# Altium integrated library Oscillators - Crystals.IntLib: 746 symbols (part 10 of 17)
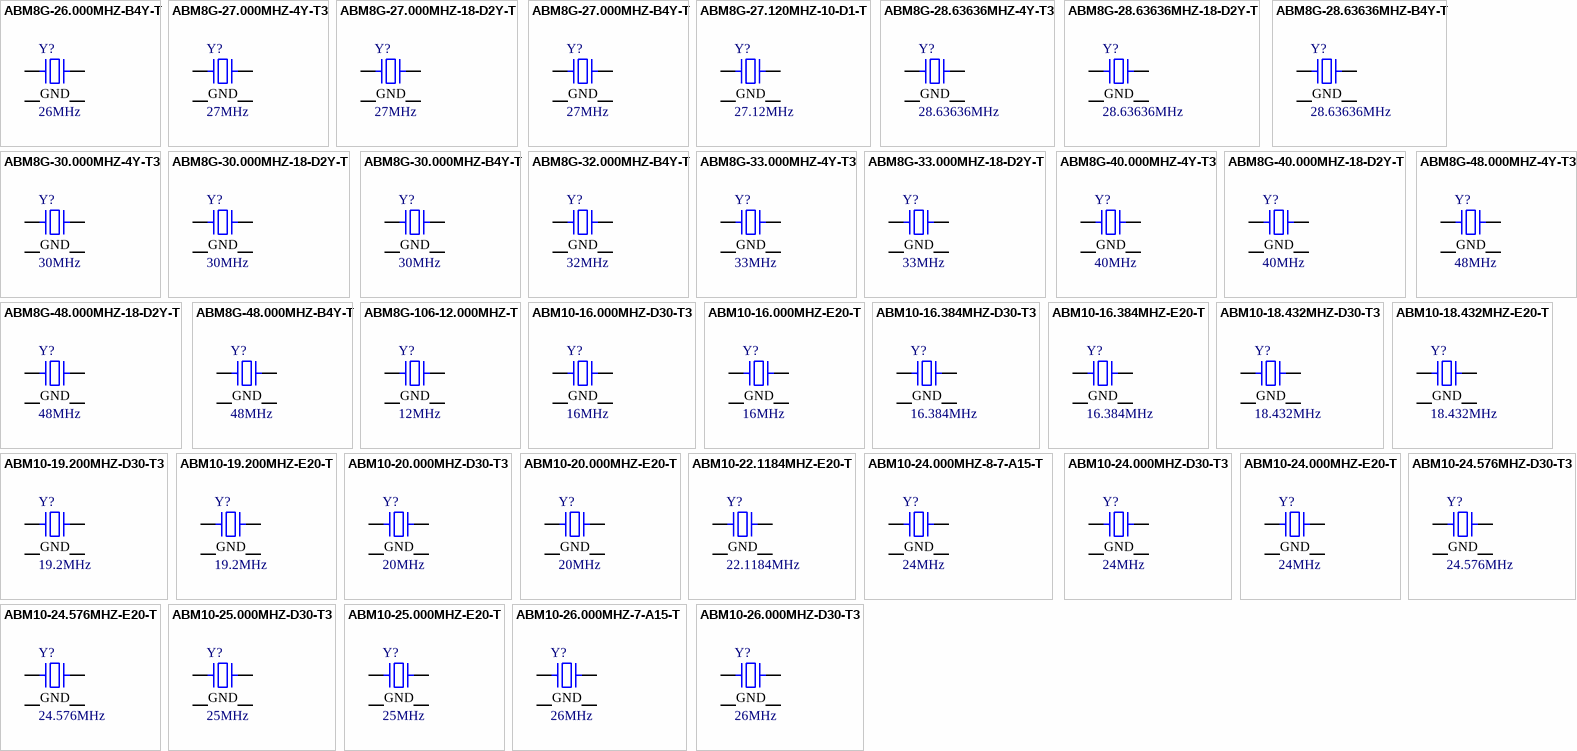
[diagram p27: symbols ABM8G-26.000MHZ-B4Y-T to ABM10-26.000MHZ-D30-T3]

## ABM8G-40.000MHZ-4Y-T3
designator Y?, comment 40MHz
CRYSTAL 40.0000MHZ 10PF SMD; Part Number: ABM8G-40.000MHZ-4Y-T3; Manufacturer: Abracon LLC; ESR (Equivalent Series Resistance): 50 Ohms; Frequency Stability: ±30ppm; Operating Mode: Fundamental; ComponentLink1Description: Datasheet; ComponentLink1URL: https://abracon.com/Resonators/ABM8G.pdf; ComponentLink2Description: DigiKey Link; ComponentLink2URL: http://digikey.com/product-detail/en/abracon-llc/ABM8G-40.000MHZ-4Y-T3/535-10921-1-ND/2624254; Device Package: 4-SMD, No Lead; Frequency: 40MHz; Frequency Tolerance: ±30ppm; Height - Seated (Max): 0.039" (1.00mm); LastUpdated: 3/19/2020 10:36:25 PM; Lifecycle Status: Active; Load Capacitance: 10pF; Minimum Order: 1; Mounting Type: Surface Mount; Operating Temperature: -10°C ~ 60°C; Package / Case: 4-SMD, No Lead; Packaging: TapeAndReel; PartId: 336; Part Status: Active; Price: 0.39; Series: ABM8G; Size / Dimension: 0.126" L x 0.098" W (3.20mm x 2.50mm); Supplier 1: DigiKey; Supplier Part Number 1: 535-10921-1-ND; Type: MHz Crystal; Value: 40MHz
footprint ABRACON ABM8G
pins: 1, 2 GND, 3, 4 GND

## ABM8G-40.000MHZ-18-D2Y-T
designator Y?, comment 40MHz
CRYSTAL 40.0000MHZ 18PF SMD; Part Number: ABM8G-40.000MHZ-18-D2Y-T; Manufacturer: Abracon LLC; ESR (Equivalent Series Resistance): 50 Ohms; Frequency Stability: ±30ppm; Frequency Tolerance: ±20ppm; Operating Mode: Fundamental; ComponentLink1Description: Datasheet; ComponentLink1URL: https://abracon.com/Resonators/ABM8G.pdf; ComponentLink2Description: DigiKey Link; ComponentLink2URL: http://digikey.com/product-detail/en/abracon-llc/ABM8G-40.000MHZ-18-D2Y-T/535-10281-1-ND/2218094; Device Package: 4-SMD, No Lead; Frequency: 40MHz; Height - Seated (Max): 0.039" (1.00mm); LastUpdated: 3/19/2020 10:36:25 PM; Lifecycle Status: Active; Load Capacitance: 18pF; Minimum Order: 1; Mounting Type: Surface Mount; Operating Temperature: -40°C ~ 85°C; Package / Case: 4-SMD, No Lead; Packaging: TapeAndReel; PartId: 323; Part Status: Active; Price: 0.59; Series: ABM8G; Size / Dimension: 0.126" L x 0.098" W (3.20mm x 2.50mm); Supplier 1: DigiKey; Supplier Part Number 1: 535-10281-1-ND; Type: MHz Crystal; Value: 40MHz
footprint ABRACON ABM8G
pins: 1, 2 GND, 3, 4 GND

## ABM8G-48.000MHZ-4Y-T3
designator Y?, comment 48MHz
CRYSTAL 48.0000MHZ 10PF SMD; Part Number: ABM8G-48.000MHZ-4Y-T3; Manufacturer: Abracon LLC; ESR (Equivalent Series Resistance): 50 Ohms; Frequency Stability: ±30ppm; Operating Mode: Fundamental; ComponentLink1Description: Datasheet; ComponentLink1URL: https://abracon.com/Resonators/ABM8G.pdf; ComponentLink2Description: DigiKey Link; ComponentLink2URL: http://digikey.com/product-detail/en/abracon-llc/ABM8G-48.000MHZ-4Y-T3/535-10922-1-ND/2624255; Device Package: 4-SMD, No Lead; Frequency: 48MHz; Frequency Tolerance: ±30ppm; Height - Seated (Max): 0.039" (1.00mm); LastUpdated: 3/19/2020 10:36:25 PM; Lifecycle Status: Active; Load Capacitance: 10pF; Minimum Order: 1; Mounting Type: Surface Mount; Operating Temperature: -10°C ~ 60°C; Package / Case: 4-SMD, No Lead; Packaging: TapeAndReel; PartId: 329; Part Status: Active; Price: 0.39; Series: ABM8G; Size / Dimension: 0.126" L x 0.098" W (3.20mm x 2.50mm); Supplier 1: DigiKey; Supplier Part Number 1: 535-10922-1-ND; Type: MHz Crystal; Value: 48MHz
footprint ABRACON ABM8G
pins: 1, 2 GND, 3, 4 GND

## ABM8G-48.000MHZ-18-D2Y-T
designator Y?, comment 48MHz
CRYSTAL 48.0000MHZ 18PF SMD; Part Number: ABM8G-48.000MHZ-18-D2Y-T; Manufacturer: Abracon LLC; ESR (Equivalent Series Resistance): 50 Ohms; Frequency Stability: ±30ppm; Frequency Tolerance: ±20ppm; Operating Mode: Fundamental; ComponentLink1Description: Datasheet; ComponentLink1URL: https://abracon.com/Resonators/ABM8G.pdf; ComponentLink2Description: DigiKey Link; ComponentLink2URL: http://digikey.com/product-detail/en/abracon-llc/ABM8G-48.000MHZ-18-D2Y-T/535-10282-1-ND/2218095; Device Package: 4-SMD, No Lead; Frequency: 48MHz; Height - Seated (Max): 0.039" (1.00mm); LastUpdated: 3/19/2020 10:36:25 PM; Lifecycle Status: Active; Load Capacitance: 18pF; Minimum Order: 1; Mounting Type: Surface Mount; Operating Temperature: -40°C ~ 85°C; Package / Case: 4-SMD, No Lead; Packaging: TapeAndReel; PartId: 318; Part Status: Active; Price: 0.59; Series: ABM8G; Size / Dimension: 0.126" L x 0.098" W (3.20mm x 2.50mm); Supplier 1: DigiKey; Supplier Part Number 1: 535-10282-1-ND; Type: MHz Crystal; Value: 48MHz
footprint ABRACON ABM8G
pins: 1, 2 GND, 3, 4 GND

## ABM8G-48.000MHZ-B4Y-T
designator Y?, comment 48MHz
CRYSTAL 48.0000MHZ 10PF SMD; Part Number: ABM8G-48.000MHZ-B4Y-T; Manufacturer: Abracon LLC; ESR (Equivalent Series Resistance): 50 Ohms; Frequency Stability: ±30ppm; Operating Mode: Fundamental; ComponentLink1Description: Datasheet; ComponentLink1URL: https://abracon.com/Resonators/ABM8G.pdf; ComponentLink2Description: DigiKey Link; ComponentLink2URL: http://digikey.com/product-detail/en/abracon-llc/ABM8G-48.000MHZ-B4Y-T/535-10305-1-ND/2218118; Device Package: 4-SMD, No Lead; Frequency: 48MHz; Frequency Tolerance: ±30ppm; Height - Seated (Max): 0.039" (1.00mm); LastUpdated: 3/19/2020 10:36:25 PM; Lifecycle Status: Active; Load Capacitance: 10pF; Minimum Order: 1; Mounting Type: Surface Mount; Operating Temperature: -20°C ~ 70°C; Package / Case: 4-SMD, No Lead; Packaging: TapeAndReel; PartId: 305; Part Status: Active; Price: 0.50; Series: ABM8G; Size / Dimension: 0.126" L x 0.098" W (3.20mm x 2.50mm); Supplier 1: DigiKey; Supplier Part Number 1: 535-10305-1-ND; Type: MHz Crystal; Value: 48MHz
footprint ABRACON ABM8G
pins: 1, 2 GND, 3, 4 GND

## ABM8G-106-12.000MHZ-T
designator Y?, comment 12MHz
IOT 12MHZ 10PF XTAL; Part Number: ABM8G-106-12.000MHZ-T; Manufacturer: Abracon LLC; ESR (Equivalent Series Resistance): 120 Ohms; Frequency Stability: ±30ppm; Frequency Tolerance: ±20ppm; Operating Mode: Fundamental; ComponentLink1Description: Datasheet; ComponentLink1URL: https://abracon.com/datasheets/ABM8G-106-12.000MHz-T.pdf; ComponentLink2Description: DigiKey Link; ComponentLink2URL: http://digikey.com/product-detail/en/abracon-llc/ABM8G-106-12.000MHZ-T/535-14512-1-ND/8827203; Device Package: 4-SMD, No Lead; Frequency: 12MHz; Height - Seated (Max): 0.039" (1.00mm); LastUpdated: 3/19/2020 10:36:25 PM; Lifecycle Status: Active; Load Capacitance: 10pF; Minimum Order: 1; Mounting Type: Surface Mount; Operating Temperature: -40°C ~ 85°C; Package / Case: 4-SMD, No Lead; Packaging: TapeAndReel; PartId: 308; Part Status: Active; Price: 0.26; Series: ABM8G; Size / Dimension: 0.126" L x 0.098" W (3.20mm x 2.50mm); Supplier 1: DigiKey; Supplier Part Number 1: 535-14512-1-ND; Type: MHz Crystal; Value: 12MHz
footprint ABRACON ABM8G
pins: 1, 2 GND, 3, 4 GND

## ABM10-16.000MHZ-D30-T3
designator Y?, comment 16MHz
CRYSTAL 16.0000MHZ 10PF SMD; Part Number: ABM10-16.000MHZ-D30-T3; Manufacturer: Abracon LLC; ESR (Equivalent Series Resistance): 150 Ohms; Frequency Stability: ±30ppm; Frequency Tolerance: ±20ppm; Operating Mode: Fundamental; ComponentLink1Description: Datasheet; ComponentLink1URL: https://abracon.com/Resonators/ABM10.pdf; ComponentLink2Description: DigiKey Link; ComponentLink2URL: http://digikey.com/product-detail/en/abracon-llc/ABM10-16.000MHZ-D30-T3/535-10923-1-ND/2624174; Device Package: 4-SMD, No Lead; Frequency: 16MHz; Height - Seated (Max): 0.028" (0.70mm); LastUpdated: 3/19/2020 10:27:46 PM; Lifecycle Status: Active; Load Capacitance: 10pF; Minimum Order: 1; Mounting Type: Surface Mount; Operating Temperature: -40°C ~ 85°C; Package / Case: 4-SMD, No Lead; Packaging: TapeAndReel; PartId: 291; Part Status: Active; Price: 0.67; Series: ABM10; Size / Dimension: 0.098" L x 0.079" W (2.50mm x 2.00mm); Supplier 1: DigiKey; Supplier Part Number 1: 535-10923-1-ND; Type: MHz Crystal; Value: 16MHz
footprint ABRACON ABM10
pins: 1, 2 GND, 3, 4 GND

## ABM10-16.000MHZ-E20-T
designator Y?, comment 16MHz
CRYSTAL 16.0000MHZ 10PF SMD; Part Number: ABM10-16.000MHZ-E20-T; Manufacturer: Abracon LLC; ESR (Equivalent Series Resistance): 150 Ohms; Frequency Stability: ±20ppm; Operating Mode: Fundamental; ComponentLink1Description: Datasheet; ComponentLink1URL: https://abracon.com/Resonators/ABM10.pdf; ComponentLink2Description: DigiKey Link; ComponentLink2URL: http://digikey.com/product-detail/en/abracon-llc/ABM10-16.000MHZ-E20-T/535-9810-1-ND/2001433; Device Package: 4-SMD, No Lead; Frequency: 16MHz; Frequency Tolerance: ±20ppm; Height - Seated (Max): 0.028" (0.70mm); LastUpdated: 3/19/2020 10:27:46 PM; Lifecycle Status: Active; Load Capacitance: 10pF; Minimum Order: 1; Mounting Type: Surface Mount; Operating Temperature: -20°C ~ 70°C; Package / Case: 4-SMD, No Lead; Packaging: TapeAndReel; PartId: 278; Part Status: Active; Price: 0.96; Series: ABM10; Size / Dimension: 0.098" L x 0.079" W (2.50mm x 2.00mm); Supplier 1: DigiKey; Supplier Part Number 1: 535-9810-1-ND; Type: MHz Crystal; Value: 16MHz
footprint ABRACON ABM10
pins: 1, 2 GND, 3, 4 GND

## ABM10-16.384MHZ-D30-T3
designator Y?, comment 16.384MHz
CRYSTAL 16.3840MHZ 10PF SMD; Part Number: ABM10-16.384MHZ-D30-T3; Manufacturer: Abracon LLC; ESR (Equivalent Series Resistance): 150 Ohms; Frequency Stability: ±30ppm; Frequency Tolerance: ±20ppm; Operating Mode: Fundamental; ComponentLink1Description: Datasheet; ComponentLink1URL: https://abracon.com/Resonators/ABM10.pdf; ComponentLink2Description: DigiKey Link; ComponentLink2URL: http://digikey.com/product-detail/en/abracon-llc/ABM10-16.384MHZ-D30-T3/535-10925-1-ND/2624176; Device Package: 4-SMD, No Lead; Frequency: 16.384MHz; Height - Seated (Max): 0.028" (0.70mm); LastUpdated: 3/19/2020 10:27:46 PM; Lifecycle Status: Active; Load Capacitance: 10pF; Minimum Order: 1; Mounting Type: Surface Mount; Operating Temperature: -40°C ~ 85°C; Package / Case: 4-SMD, No Lead; Packaging: TapeAndReel; PartId: 271; Part Status: Active; Price: 0.67; Series: ABM10; Size / Dimension: 0.098" L x 0.079" W (2.50mm x 2.00mm); Supplier 1: DigiKey; Supplier Part Number 1: 535-10925-1-ND; Type: MHz Crystal; Value: 16.384MHz
footprint ABRACON ABM10
pins: 1, 2 GND, 3, 4 GND

## ABM10-16.384MHZ-E20-T
designator Y?, comment 16.384MHz
CRYSTAL 16.3840MHZ 10PF SMD; Part Number: ABM10-16.384MHZ-E20-T; Manufacturer: Abracon LLC; ESR (Equivalent Series Resistance): 150 Ohms; Frequency Stability: ±20ppm; Operating Mode: Fundamental; ComponentLink1Description: Datasheet; ComponentLink1URL: https://abracon.com/Resonators/ABM10.pdf; ComponentLink2Description: DigiKey Link; ComponentLink2URL: http://digikey.com/product-detail/en/abracon-llc/ABM10-16.384MHZ-E20-T/535-9812-1-ND/2001435; Device Package: 4-SMD, No Lead; Frequency: 16.384MHz; Frequency Tolerance: ±20ppm; Height - Seated (Max): 0.028" (0.70mm); LastUpdated: 3/19/2020 10:27:46 PM; Lifecycle Status: Active; Load Capacitance: 10pF; Minimum Order: 1; Mounting Type: Surface Mount; Operating Temperature: -20°C ~ 70°C; Package / Case: 4-SMD, No Lead; Packaging: TapeAndReel; PartId: 276; Part Status: Active; Price: 0.96; Series: ABM10; Size / Dimension: 0.098" L x 0.079" W (2.50mm x 2.00mm); Supplier 1: DigiKey; Supplier Part Number 1: 535-9812-1-ND; Type: MHz Crystal; Value: 16.384MHz
footprint ABRACON ABM10
pins: 1, 2 GND, 3, 4 GND

## ABM10-18.432MHZ-D30-T3
designator Y?, comment 18.432MHz
CRYSTAL 18.4320MHZ 10PF SMD; Part Number: ABM10-18.432MHZ-D30-T3; Manufacturer: Abracon LLC; ESR (Equivalent Series Resistance): 150 Ohms; Frequency Stability: ±30ppm; Frequency Tolerance: ±20ppm; Operating Mode: Fundamental; ComponentLink1Description: Datasheet; ComponentLink1URL: https://abracon.com/Resonators/ABM10.pdf; ComponentLink2Description: DigiKey Link; ComponentLink2URL: http://digikey.com/product-detail/en/abracon-llc/ABM10-18.432MHZ-D30-T3/535-10926-1-ND/2624177; Device Package: 4-SMD, No Lead; Frequency: 18.432MHz; Height - Seated (Max): 0.028" (0.70mm); LastUpdated: 3/19/2020 10:27:46 PM; Lifecycle Status: Active; Load Capacitance: 10pF; Minimum Order: 1; Mounting Type: Surface Mount; Operating Temperature: -40°C ~ 85°C; Package / Case: 4-SMD, No Lead; Packaging: TapeAndReel; PartId: 270; Part Status: Active; Price: 0.67; Series: ABM10; Size / Dimension: 0.098" L x 0.079" W (2.50mm x 2.00mm); Supplier 1: DigiKey; Supplier Part Number 1: 535-10926-1-ND; Type: MHz Crystal; Value: 18.432MHz
footprint ABRACON ABM10
pins: 1, 2 GND, 3, 4 GND

## ABM10-18.432MHZ-E20-T
designator Y?, comment 18.432MHz
CRYSTAL 18.4320MHZ 10PF SMD; Part Number: ABM10-18.432MHZ-E20-T; Manufacturer: Abracon LLC; ESR (Equivalent Series Resistance): 150 Ohms; Frequency Stability: ±20ppm; Operating Mode: Fundamental; ComponentLink1Description: Datasheet; ComponentLink1URL: https://abracon.com/Resonators/ABM10.pdf; ComponentLink2Description: DigiKey Link; ComponentLink2URL: http://digikey.com/product-detail/en/abracon-llc/ABM10-18.432MHZ-E20-T/535-9813-1-ND/2001436; Device Package: 4-SMD, No Lead; Frequency: 18.432MHz; Frequency Tolerance: ±20ppm; Height - Seated (Max): 0.028" (0.70mm); LastUpdated: 3/19/2020 10:27:46 PM; Lifecycle Status: Active; Load Capacitance: 10pF; Minimum Order: 1; Mounting Type: Surface Mount; Operating Temperature: -20°C ~ 70°C; Package / Case: 4-SMD, No Lead; Packaging: TapeAndReel; PartId: 288; Part Status: Active; Price: 0.96; Series: ABM10; Size / Dimension: 0.098" L x 0.079" W (2.50mm x 2.00mm); Supplier 1: DigiKey; Supplier Part Number 1: 535-9813-1-ND; Type: MHz Crystal; Value: 18.432MHz
footprint ABRACON ABM10
pins: 1, 2 GND, 3, 4 GND

## ABM10-19.200MHZ-D30-T3
designator Y?, comment 19.2MHz
CRYSTAL 19.2000MHZ 10PF SMD; Part Number: ABM10-19.200MHZ-D30-T3; Manufacturer: Abracon LLC; ESR (Equivalent Series Resistance): 150 Ohms; Frequency Stability: ±30ppm; Frequency Tolerance: ±20ppm; Operating Mode: Fundamental; ComponentLink1Description: Datasheet; ComponentLink1URL: https://abracon.com/Resonators/ABM10.pdf; ComponentLink2Description: DigiKey Link; ComponentLink2URL: http://digikey.com/product-detail/en/abracon-llc/ABM10-19.200MHZ-D30-T3/535-10927-1-ND/2624178; Device Package: 4-SMD, No Lead; Frequency: 19.2MHz; Height - Seated (Max): 0.028" (0.70mm); LastUpdated: 3/19/2020 10:27:46 PM; Lifecycle Status: Active; Load Capacitance: 10pF; Minimum Order: 1; Mounting Type: Surface Mount; Operating Temperature: -40°C ~ 85°C; Package / Case: 4-SMD, No Lead; Packaging: TapeAndReel; PartId: 293; Part Status: Active; Price: 0.67; Series: ABM10; Size / Dimension: 0.098" L x 0.079" W (2.50mm x 2.00mm); Supplier 1: DigiKey; Supplier Part Number 1: 535-10927-1-ND; Type: MHz Crystal; Value: 19.2MHz
footprint ABRACON ABM10
pins: 1, 2 GND, 3, 4 GND

## ABM10-19.200MHZ-E20-T
designator Y?, comment 19.2MHz
CRYSTAL 19.2000MHZ 10PF SMD; Part Number: ABM10-19.200MHZ-E20-T; Manufacturer: Abracon LLC; ESR (Equivalent Series Resistance): 150 Ohms; Frequency Stability: ±20ppm; Operating Mode: Fundamental; ComponentLink1Description: Datasheet; ComponentLink1URL: https://abracon.com/Resonators/ABM10.pdf; ComponentLink2Description: DigiKey Link; ComponentLink2URL: http://digikey.com/product-detail/en/abracon-llc/ABM10-19.200MHZ-E20-T/535-9814-1-ND/2001437; Device Package: 4-SMD, No Lead; Frequency: 19.2MHz; Frequency Tolerance: ±20ppm; Height - Seated (Max): 0.028" (0.70mm); LastUpdated: 3/19/2020 10:27:46 PM; Lifecycle Status: Active; Load Capacitance: 10pF; Minimum Order: 1; Mounting Type: Surface Mount; Operating Temperature: -20°C ~ 70°C; Package / Case: 4-SMD, No Lead; Packaging: TapeAndReel; PartId: 283; Part Status: Active; Price: 0.96; Series: ABM10; Size / Dimension: 0.098" L x 0.079" W (2.50mm x 2.00mm); Supplier 1: DigiKey; Supplier Part Number 1: 535-9814-1-ND; Type: MHz Crystal; Value: 19.2MHz
footprint ABRACON ABM10
pins: 1, 2 GND, 3, 4 GND

## ABM10-20.000MHZ-D30-T3
designator Y?, comment 20MHz
CRYSTAL 20.0000MHZ 10PF SMD; Part Number: ABM10-20.000MHZ-D30-T3; Manufacturer: Abracon LLC; ESR (Equivalent Series Resistance): 100 Ohms; Frequency Stability: ±30ppm; Frequency Tolerance: ±20ppm; Operating Mode: Fundamental; ComponentLink1Description: Datasheet; ComponentLink1URL: https://abracon.com/Resonators/ABM10.pdf; ComponentLink2Description: DigiKey Link; ComponentLink2URL: http://digikey.com/product-detail/en/abracon-llc/ABM10-20.000MHZ-D30-T3/535-10928-1-ND/2624179; Device Package: 4-SMD, No Lead; Frequency: 20MHz; Height - Seated (Max): 0.028" (0.70mm); LastUpdated: 3/19/2020 10:27:46 PM; Lifecycle Status: Active; Load Capacitance: 10pF; Minimum Order: 1; Mounting Type: Surface Mount; Operating Temperature: -40°C ~ 85°C; Package / Case: 4-SMD, No Lead; Packaging: TapeAndReel; PartId: 294; Part Status: Active; Price: 0.67; Series: ABM10; Size / Dimension: 0.098" L x 0.079" W (2.50mm x 2.00mm); Supplier 1: DigiKey; Supplier Part Number 1: 535-10928-1-ND; Type: MHz Crystal; Value: 20MHz
footprint ABRACON ABM10
pins: 1, 2 GND, 3, 4 GND

## ABM10-20.000MHZ-E20-T
designator Y?, comment 20MHz
CRYSTAL 20.0000MHZ 10PF SMD; Part Number: ABM10-20.000MHZ-E20-T; Manufacturer: Abracon LLC; ESR (Equivalent Series Resistance): 100 Ohms; Frequency Stability: ±20ppm; Operating Mode: Fundamental; ComponentLink1Description: Datasheet; ComponentLink1URL: https://abracon.com/Resonators/ABM10.pdf; ComponentLink2Description: DigiKey Link; ComponentLink2URL: http://digikey.com/product-detail/en/abracon-llc/ABM10-20.000MHZ-E20-T/535-9091-1-ND/675608; Device Package: 4-SMD, No Lead; Frequency: 20MHz; Frequency Tolerance: ±20ppm; Height - Seated (Max): 0.028" (0.70mm); LastUpdated: 3/19/2020 10:27:46 PM; Lifecycle Status: Active; Load Capacitance: 10pF; Minimum Order: 1; Mounting Type: Surface Mount; Operating Temperature: -20°C ~ 70°C; Package / Case: 4-SMD, No Lead; Packaging: TapeAndReel; PartId: 282; Part Status: Active; Price: 0.96; Series: ABM10; Size / Dimension: 0.098" L x 0.079" W (2.50mm x 2.00mm); Supplier 1: DigiKey; Supplier Part Number 1: 535-9091-1-ND; Type: MHz Crystal; Value: 20MHz
footprint ABRACON ABM10
pins: 1, 2 GND, 3, 4 GND

## ABM10-22.1184MHZ-E20-T
designator Y?, comment 22.1184MHz
CRYSTAL 22.1184MHZ 10PF SMD; Part Number: ABM10-22.1184MHZ-E20-T; Manufacturer: Abracon LLC; ESR (Equivalent Series Resistance): 100 Ohms; Frequency Stability: ±20ppm; Operating Mode: Fundamental; ComponentLink1Description: Datasheet; ComponentLink1URL: https://abracon.com/Resonators/ABM10.pdf; ComponentLink2Description: DigiKey Link; ComponentLink2URL: http://digikey.com/product-detail/en/abracon-llc/ABM10-22.1184MHZ-E20-T/535-9092-1-ND/675609; Device Package: 4-SMD, No Lead; Frequency: 22.1184MHz; Frequency Tolerance: ±20ppm; Height - Seated (Max): 0.028" (0.70mm); LastUpdated: 3/19/2020 10:27:46 PM; Lifecycle Status: Active; Load Capacitance: 10pF; Minimum Order: 1; Mounting Type: Surface Mount; Operating Temperature: -20°C ~ 70°C; Package / Case: 4-SMD, No Lead; Packaging: TapeAndReel; PartId: 277; Part Status: Active; Price: 0.96; Series: ABM10; Size / Dimension: 0.098" L x 0.079" W (2.50mm x 2.00mm); Supplier 1: DigiKey; Supplier Part Number 1: 535-9092-1-ND; Type: MHz Crystal; Value: 22.1184MHz
footprint ABRACON ABM10
pins: 1, 2 GND, 3, 4 GND

## ABM10-24.000MHZ-8-7-A15-T
designator Y?, comment 24MHz
CRYSTAL 24.0000MHZ 8PF SMD; Part Number: ABM10-24.000MHZ-8-7-A15-T; Manufacturer: Abracon LLC; ESR (Equivalent Series Resistance): 100 Ohms; Frequency Stability: ±15ppm; Operating Mode: Fundamental; ComponentLink1Description: Datasheet; ComponentLink1URL: https://abracon.com/Resonators/ABM10.pdf; ComponentLink2Description: DigiKey Link; ComponentLink2URL: http://digikey.com/product-detail/en/abracon-llc/ABM10-24.000MHZ-8-7-A15-T/535-9622-1-ND/1237089; Device Package: 4-SMD, No Lead; Frequency: 24MHz; Frequency Tolerance: ±15ppm; Height - Seated (Max): 0.028" (0.70mm); LastUpdated: 3/19/2020 10:27:46 PM; Lifecycle Status: Active; Load Capacitance: 8pF; Minimum Order: 1; Mounting Type: Surface Mount; Operating Temperature: -10°C ~ 60°C; Package / Case: 4-SMD, No Lead; Packaging: TapeAndReel; PartId: 265; Part Status: Active; Price: 0.60; Series: ABM10; Size / Dimension: 0.098" L x 0.079" W (2.50mm x 2.00mm); Supplier 1: DigiKey; Supplier Part Number 1: 535-9622-1-ND; Type: MHz Crystal; Value: 24MHz
footprint ABRACON ABM10
pins: 1, 2 GND, 3, 4 GND

## ABM10-24.000MHZ-D30-T3
designator Y?, comment 24MHz
CRYSTAL 24.0000MHZ 10PF SMD; Part Number: ABM10-24.000MHZ-D30-T3; Manufacturer: Abracon LLC; ESR (Equivalent Series Resistance): 100 Ohms; Frequency Stability: ±30ppm; Frequency Tolerance: ±20ppm; Operating Mode: Fundamental; ComponentLink1Description: Datasheet; ComponentLink1URL: https://abracon.com/Resonators/ABM10.pdf; ComponentLink2Description: DigiKey Link; ComponentLink2URL: http://digikey.com/product-detail/en/abracon-llc/ABM10-24.000MHZ-D30-T3/535-10930-1-ND/2624181; Device Package: 4-SMD, No Lead; Frequency: 24MHz; Height - Seated (Max): 0.028" (0.70mm); LastUpdated: 3/19/2020 10:27:46 PM; Lifecycle Status: Active; Load Capacitance: 10pF; Minimum Order: 1; Mounting Type: Surface Mount; Operating Temperature: -40°C ~ 85°C; Package / Case: 4-SMD, No Lead; Packaging: TapeAndReel; PartId: 292; Part Status: Active; Price: 0.67; Series: ABM10; Size / Dimension: 0.098" L x 0.079" W (2.50mm x 2.00mm); Supplier 1: DigiKey; Supplier Part Number 1: 535-10930-1-ND; Type: MHz Crystal; Value: 24MHz
footprint ABRACON ABM10
pins: 1, 2 GND, 3, 4 GND

## ABM10-24.000MHZ-E20-T
designator Y?, comment 24MHz
CRYSTAL 24.0000MHZ 10PF SMD; Part Number: ABM10-24.000MHZ-E20-T; Manufacturer: Abracon LLC; ESR (Equivalent Series Resistance): 100 Ohms; Frequency Stability: ±20ppm; Operating Mode: Fundamental; ComponentLink1Description: Datasheet; ComponentLink1URL: https://abracon.com/Resonators/ABM10.pdf; ComponentLink2Description: DigiKey Link; ComponentLink2URL: http://digikey.com/product-detail/en/abracon-llc/ABM10-24.000MHZ-E20-T/535-9093-1-ND/675610; Device Package: 4-SMD, No Lead; Frequency: 24MHz; Frequency Tolerance: ±20ppm; Height - Seated (Max): 0.028" (0.70mm); LastUpdated: 3/19/2020 10:27:46 PM; Lifecycle Status: Active; Load Capacitance: 10pF; Minimum Order: 1; Mounting Type: Surface Mount; Operating Temperature: -20°C ~ 70°C; Package / Case: 4-SMD, No Lead; Packaging: TapeAndReel; PartId: 280; Part Status: Active; Price: 0.96; Series: ABM10; Size / Dimension: 0.098" L x 0.079" W (2.50mm x 2.00mm); Supplier 1: DigiKey; Supplier Part Number 1: 535-9093-1-ND; Type: MHz Crystal; Value: 24MHz
footprint ABRACON ABM10
pins: 1, 2 GND, 3, 4 GND

## ABM10-24.576MHZ-D30-T3
designator Y?, comment 24.576MHz
CRYSTAL 24.5760MHZ 10PF SMD; Part Number: ABM10-24.576MHZ-D30-T3; Manufacturer: Abracon LLC; ESR (Equivalent Series Resistance): 100 Ohms; Frequency Stability: ±30ppm; Frequency Tolerance: ±20ppm; Operating Mode: Fundamental; ComponentLink1Description: Datasheet; ComponentLink1URL: https://abracon.com/Resonators/ABM10.pdf; ComponentLink2Description: DigiKey Link; ComponentLink2URL: http://digikey.com/product-detail/en/abracon-llc/ABM10-24.576MHZ-D30-T3/535-10931-1-ND/2624182; Device Package: 4-SMD, No Lead; Frequency: 24.576MHz; Height - Seated (Max): 0.028" (0.70mm); LastUpdated: 3/19/2020 10:27:46 PM; Lifecycle Status: Active; Load Capacitance: 10pF; Minimum Order: 1; Mounting Type: Surface Mount; Operating Temperature: -40°C ~ 85°C; Package / Case: 4-SMD, No Lead; Packaging: TapeAndReel; PartId: 267; Part Status: Active; Price: 0.67; Series: ABM10; Size / Dimension: 0.098" L x 0.079" W (2.50mm x 2.00mm); Supplier 1: DigiKey; Supplier Part Number 1: 535-10931-1-ND; Type: MHz Crystal; Value: 24.576MHz
footprint ABRACON ABM10
pins: 1, 2 GND, 3, 4 GND

## ABM10-24.576MHZ-E20-T
designator Y?, comment 24.576MHz
CRYSTAL 24.5760MHZ 10PF SMD; Part Number: ABM10-24.576MHZ-E20-T; Manufacturer: Abracon LLC; ESR (Equivalent Series Resistance): 100 Ohms; Frequency Stability: ±20ppm; Operating Mode: Fundamental; ComponentLink1Description: Datasheet; ComponentLink1URL: https://abracon.com/Resonators/ABM10.pdf; ComponentLink2Description: DigiKey Link; ComponentLink2URL: http://digikey.com/product-detail/en/abracon-llc/ABM10-24.576MHZ-E20-T/535-9094-1-ND/675611; Device Package: 4-SMD, No Lead; Frequency: 24.576MHz; Frequency Tolerance: ±20ppm; Height - Seated (Max): 0.028" (0.70mm); LastUpdated: 3/19/2020 10:27:46 PM; Lifecycle Status: Active; Load Capacitance: 10pF; Minimum Order: 1; Mounting Type: Surface Mount; Operating Temperature: -20°C ~ 70°C; Package / Case: 4-SMD, No Lead; Packaging: TapeAndReel; PartId: 287; Part Status: Active; Price: 0.96; Series: ABM10; Size / Dimension: 0.098" L x 0.079" W (2.50mm x 2.00mm); Supplier 1: DigiKey; Supplier Part Number 1: 535-9094-1-ND; Type: MHz Crystal; Value: 24.576MHz
footprint ABRACON ABM10
pins: 1, 2 GND, 3, 4 GND

## ABM10-25.000MHZ-D30-T3
designator Y?, comment 25MHz
CRYSTAL 25.0000MHZ 10PF SMD; Part Number: ABM10-25.000MHZ-D30-T3; Manufacturer: Abracon LLC; ESR (Equivalent Series Resistance): 100 Ohms; Frequency Stability: ±30ppm; Frequency Tolerance: ±20ppm; Operating Mode: Fundamental; ComponentLink1Description: Datasheet; ComponentLink1URL: https://abracon.com/Resonators/ABM10.pdf; ComponentLink2Description: DigiKey Link; ComponentLink2URL: http://digikey.com/product-detail/en/abracon-llc/ABM10-25.000MHZ-D30-T3/535-10932-1-ND/2624183; Device Package: 4-SMD, No Lead; Frequency: 25MHz; Height - Seated (Max): 0.028" (0.70mm); LastUpdated: 3/19/2020 10:27:46 PM; Lifecycle Status: Active; Load Capacitance: 10pF; Minimum Order: 1; Mounting Type: Surface Mount; Operating Temperature: -40°C ~ 85°C; Package / Case: 4-SMD, No Lead; Packaging: TapeAndReel; PartId: 264; Part Status: Active; Price: 0.67; Series: ABM10; Size / Dimension: 0.098" L x 0.079" W (2.50mm x 2.00mm); Supplier 1: DigiKey; Supplier Part Number 1: 535-10932-1-ND; Type: MHz Crystal; Value: 25MHz
footprint ABRACON ABM10
pins: 1, 2 GND, 3, 4 GND

## ABM10-25.000MHZ-E20-T
designator Y?, comment 25MHz
CRYSTAL 25.0000MHZ 10PF SMD; Part Number: ABM10-25.000MHZ-E20-T; Manufacturer: Abracon LLC; ESR (Equivalent Series Resistance): 100 Ohms; Frequency Stability: ±20ppm; Operating Mode: Fundamental; ComponentLink1Description: Datasheet; ComponentLink1URL: https://abracon.com/Resonators/ABM10.pdf; ComponentLink2Description: DigiKey Link; ComponentLink2URL: http://digikey.com/product-detail/en/abracon-llc/ABM10-25.000MHZ-E20-T/535-9095-1-ND/675612; Device Package: 4-SMD, No Lead; Frequency: 25MHz; Frequency Tolerance: ±20ppm; Height - Seated (Max): 0.028" (0.70mm); LastUpdated: 3/19/2020 10:27:46 PM; Lifecycle Status: Active; Load Capacitance: 10pF; Minimum Order: 1; Mounting Type: Surface Mount; Operating Temperature: -20°C ~ 70°C; Package / Case: 4-SMD, No Lead; Packaging: TapeAndReel; PartId: 279; Part Status: Active; Price: 0.96; Series: ABM10; Size / Dimension: 0.098" L x 0.079" W (2.50mm x 2.00mm); Supplier 1: DigiKey; Supplier Part Number 1: 535-9095-1-ND; Type: MHz Crystal; Value: 25MHz
footprint ABRACON ABM10
pins: 1, 2 GND, 3, 4 GND

## ABM10-26.000MHZ-7-A15-T
designator Y?, comment 26MHz
CRYSTAL 26.0000MHZ 10PF SMD; Part Number: ABM10-26.000MHZ-7-A15-T; Manufacturer: Abracon LLC; ESR (Equivalent Series Resistance): 100 Ohms; Frequency Stability: ±15ppm; Operating Mode: Fundamental; ComponentLink1Description: Datasheet; ComponentLink1URL: https://abracon.com/Resonators/ABM10.pdf; ComponentLink2Description: DigiKey Link; ComponentLink2URL: http://digikey.com/product-detail/en/abracon-llc/ABM10-26.000MHZ-7-A15-T/535-9624-1-ND/1237091; Device Package: 4-SMD, No Lead; Frequency: 26MHz; Frequency Tolerance: ±15ppm; Height - Seated (Max): 0.028" (0.70mm); LastUpdated: 3/19/2020 10:27:46 PM; Lifecycle Status: Active; Load Capacitance: 10pF; Minimum Order: 1; Mounting Type: Surface Mount; Operating Temperature: -10°C ~ 60°C; Package / Case: 4-SMD, No Lead; Packaging: TapeAndReel; PartId: 289; Part Status: Active; Price: 0.60; Series: ABM10; Size / Dimension: 0.098" L x 0.079" W (2.50mm x 2.00mm); Supplier 1: DigiKey; Supplier Part Number 1: 535-9624-1-ND; Type: MHz Crystal; Value: 26MHz
footprint ABRACON ABM10
pins: 1, 2 GND, 3, 4 GND

## ABM10-26.000MHZ-D30-T3
designator Y?, comment 26MHz
CRYSTAL 26.0000MHZ 10PF SMD; Part Number: ABM10-26.000MHZ-D30-T3; Manufacturer: Abracon LLC; ESR (Equivalent Series Resistance): 100 Ohms; Frequency Stability: ±30ppm; Frequency Tolerance: ±20ppm; Operating Mode: Fundamental; ComponentLink1Description: Datasheet; ComponentLink1URL: https://abracon.com/Resonators/ABM10.pdf; ComponentLink2Description: DigiKey Link; ComponentLink2URL: http://digikey.com/product-detail/en/abracon-llc/ABM10-26.000MHZ-D30-T3/535-10933-1-ND/2624184; Device Package: 4-SMD, No Lead; Frequency: 26MHz; Height - Seated (Max): 0.028" (0.70mm); LastUpdated: 3/19/2020 10:27:46 PM; Lifecycle Status: Active; Load Capacitance: 10pF; Minimum Order: 1; Mounting Type: Surface Mount; Operating Temperature: -40°C ~ 85°C; Package / Case: 4-SMD, No Lead; Packaging: TapeAndReel; PartId: 295; Part Status: Active; Price: 0.67; Series: ABM10; Size / Dimension: 0.098" L x 0.079" W (2.50mm x 2.00mm); Supplier 1: DigiKey; Supplier Part Number 1: 535-10933-1-ND; Type: MHz Crystal; Value: 26MHz
footprint ABRACON ABM10
pins: 1, 2 GND, 3, 4 GND

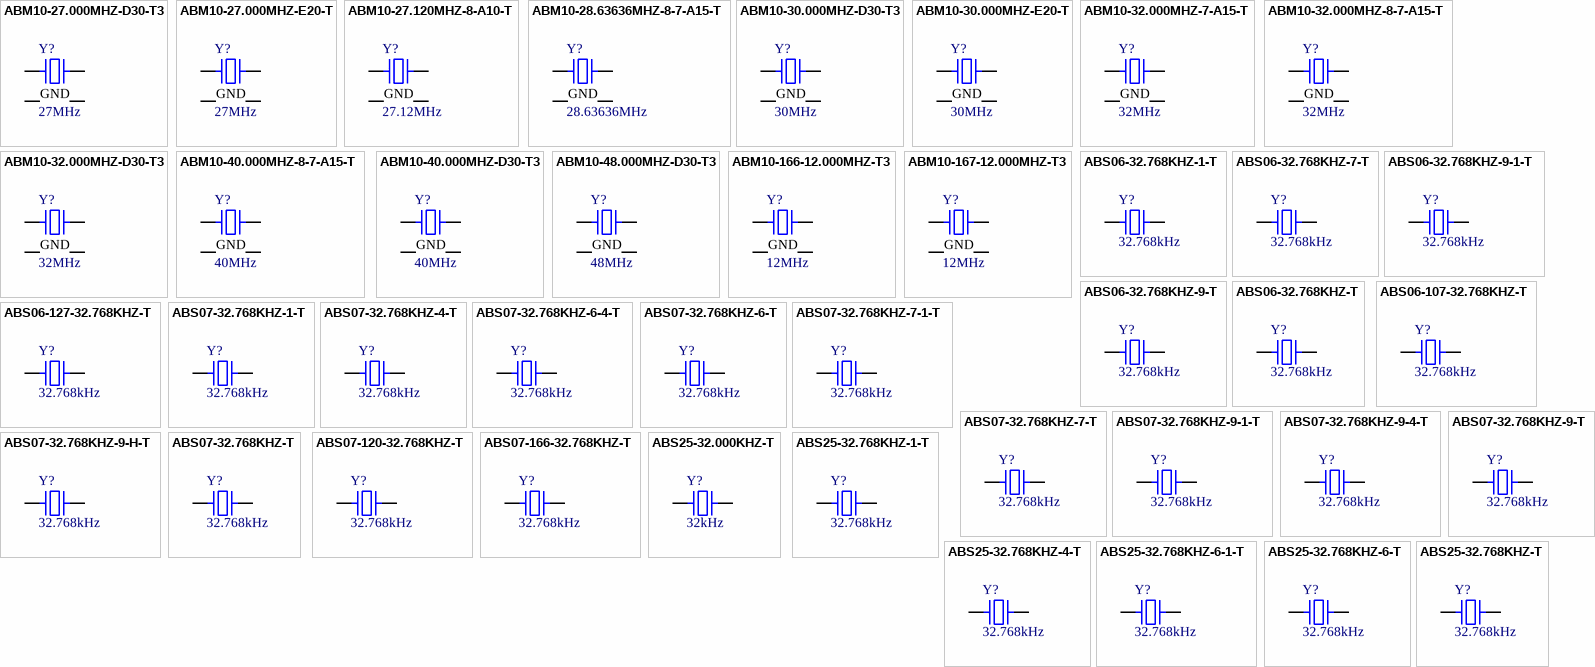
[diagram p11: symbols ABM10-27.000MHZ-D30-T3 to ABS25-32.768KHZ-T]

## ABM10-27.000MHZ-D30-T3
designator Y?, comment 27MHz
CRYSTAL 27.0000MHZ 10PF SMD; Part Number: ABM10-27.000MHZ-D30-T3; Manufacturer: Abracon LLC; ESR (Equivalent Series Resistance): 100 Ohms; Frequency Stability: ±30ppm; Frequency Tolerance: ±20ppm; Operating Mode: Fundamental; ComponentLink1Description: Datasheet; ComponentLink1URL: https://abracon.com/Resonators/ABM10.pdf; ComponentLink2Description: DigiKey Link; ComponentLink2URL: http://digikey.com/product-detail/en/abracon-llc/ABM10-27.000MHZ-D30-T3/535-10934-1-ND/2624185; Device Package: 4-SMD, No Lead; Frequency: 27MHz; Height - Seated (Max): 0.028" (0.70mm); LastUpdated: 3/19/2020 10:27:46 PM; Lifecycle Status: Active; Load Capacitance: 10pF; Minimum Order: 1; Mounting Type: Surface Mount; Operating Temperature: -40°C ~ 85°C; Package / Case: 4-SMD, No Lead; Packaging: TapeAndReel; PartId: 274; Part Status: Active; Price: 0.67; Series: ABM10; Size / Dimension: 0.098" L x 0.079" W (2.50mm x 2.00mm); Supplier 1: DigiKey; Supplier Part Number 1: 535-10934-1-ND; Type: MHz Crystal; Value: 27MHz
footprint ABRACON ABM10
pins: 1, 2 GND, 3, 4 GND

## ABM10-27.000MHZ-E20-T
designator Y?, comment 27MHz
CRYSTAL 27.0000MHZ 10PF SMD; Part Number: ABM10-27.000MHZ-E20-T; Manufacturer: Abracon LLC; ESR (Equivalent Series Resistance): 100 Ohms; Frequency Stability: ±20ppm; Operating Mode: Fundamental; ComponentLink1Description: Datasheet; ComponentLink1URL: https://abracon.com/Resonators/ABM10.pdf; ComponentLink2Description: DigiKey Link; ComponentLink2URL: http://digikey.com/product-detail/en/abracon-llc/ABM10-27.000MHZ-E20-T/535-9096-1-ND/675613; Device Package: 4-SMD, No Lead; Frequency: 27MHz; Frequency Tolerance: ±20ppm; Height - Seated (Max): 0.028" (0.70mm); LastUpdated: 3/19/2020 10:27:46 PM; Lifecycle Status: Active; Load Capacitance: 10pF; Minimum Order: 1; Mounting Type: Surface Mount; Operating Temperature: -20°C ~ 70°C; Package / Case: 4-SMD, No Lead; Packaging: TapeAndReel; PartId: 281; Part Status: Active; Price: 0.96; Series: ABM10; Size / Dimension: 0.098" L x 0.079" W (2.50mm x 2.00mm); Supplier 1: DigiKey; Supplier Part Number 1: 535-9096-1-ND; Type: MHz Crystal; Value: 27MHz
footprint ABRACON ABM10
pins: 1, 2 GND, 3, 4 GND

## ABM10-27.120MHZ-8-A10-T
designator Y?, comment 27.12MHz
CRYSTAL 27.120MHZ 8PF SMD; Part Number: ABM10-27.120MHZ-8-A10-T; Manufacturer: Abracon LLC; ESR (Equivalent Series Resistance): 100 Ohms; Frequency Stability: ±10ppm; Frequency Tolerance: ±20ppm; Operating Mode: Fundamental; ComponentLink1Description: Datasheet; ComponentLink1URL: https://abracon.com/Resonators/ABM10.pdf; ComponentLink2Description: DigiKey Link; ComponentLink2URL: http://digikey.com/product-detail/en/abracon-llc/ABM10-27.120MHZ-8-A10-T/535-14367-1-ND/8582128; Device Package: 4-SMD, No Lead; Frequency: 27.12MHz; Height - Seated (Max): 0.028" (0.70mm); LastUpdated: 3/19/2020 10:27:46 PM; Lifecycle Status: Active; Load Capacitance: 8pF; Minimum Order: 1; Mounting Type: Surface Mount; Operating Temperature: -10°C ~ 60°C; Package / Case: 4-SMD, No Lead; Packaging: TapeAndReel; PartId: 262; Part Status: Active; Price: 0.59; Series: ABM10; Size / Dimension: 0.098" L x 0.079" W (2.50mm x 2.00mm); Supplier 1: DigiKey; Supplier Part Number 1: 535-14367-1-ND; Type: MHz Crystal; Value: 27.12MHz
footprint ABRACON ABM10
pins: 1, 2 GND, 3, 4 GND

## ABM10-28.63636MHZ-8-7-A15-T
designator Y?, comment 28.63636MHz
CRYSTAL 28.63636MHZ 8PF SMD; Part Number: ABM10-28.63636MHZ-8-7-A15-T; Manufacturer: Abracon LLC; ESR (Equivalent Series Resistance): 100 Ohms; Frequency Stability: ±15ppm; Operating Mode: Fundamental; ComponentLink1Description: Datasheet; ComponentLink1URL: https://abracon.com/Resonators/ABM10.pdf; ComponentLink2Description: DigiKey Link; ComponentLink2URL: http://digikey.com/product-detail/en/abracon-llc/ABM10-28.63636MHZ-8-7-A15-T/535-9623-1-ND/1237090; Device Package: 4-SMD, No Lead; Frequency: 28.63636MHz; Frequency Tolerance: ±15ppm; Height - Seated (Max): 0.028" (0.70mm); LastUpdated: 3/19/2020 10:27:46 PM; Lifecycle Status: Active; Load Capacitance: 8pF; Minimum Order: 0; Mounting Type: Surface Mount; Operating Temperature: -10°C ~ 60°C; Package / Case: 4-SMD, No Lead; Packaging: TapeAndReel; PartId: 266; Part Status: Active; Price: 0.60; Series: ABM10; Size / Dimension: 0.098" L x 0.079" W (2.50mm x 2.00mm); Supplier 1: DigiKey; Supplier Part Number 1: 535-9623-1-ND; Type: MHz Crystal; Value: 28.63636MHz
footprint ABRACON ABM10
pins: 1, 2 GND, 3, 4 GND

## ABM10-30.000MHZ-D30-T3
designator Y?, comment 30MHz
CRYSTAL 30.0000MHZ 10PF SMD; Part Number: ABM10-30.000MHZ-D30-T3; Manufacturer: Abracon LLC; ESR (Equivalent Series Resistance): 70 Ohms; Frequency Stability: ±30ppm; Frequency Tolerance: ±20ppm; Operating Mode: Fundamental; ComponentLink1Description: Datasheet; ComponentLink1URL: https://abracon.com/Resonators/ABM10.pdf; ComponentLink2Description: DigiKey Link; ComponentLink2URL: http://digikey.com/product-detail/en/abracon-llc/ABM10-30.000MHZ-D30-T3/535-10935-1-ND/2624186; Device Package: 4-SMD, No Lead; Frequency: 30MHz; Height - Seated (Max): 0.028" (0.70mm); LastUpdated: 3/19/2020 10:27:46 PM; Lifecycle Status: Active; Load Capacitance: 10pF; Minimum Order: 1; Mounting Type: Surface Mount; Operating Temperature: -40°C ~ 85°C; Package / Case: 4-SMD, No Lead; Packaging: TapeAndReel; PartId: 272; Part Status: Active; Price: 0.67; Series: ABM10; Size / Dimension: 0.098" L x 0.079" W (2.50mm x 2.00mm); Supplier 1: DigiKey; Supplier Part Number 1: 535-10935-1-ND; Type: MHz Crystal; Value: 30MHz
footprint ABRACON ABM10
pins: 1, 2 GND, 3, 4 GND

## ABM10-30.000MHZ-E20-T
designator Y?, comment 30MHz
CRYSTAL 30.0000MHZ 10PF SMD; Part Number: ABM10-30.000MHZ-E20-T; Manufacturer: Abracon LLC; ESR (Equivalent Series Resistance): 70 Ohms; Frequency Stability: ±20ppm; Operating Mode: Fundamental; ComponentLink1Description: Datasheet; ComponentLink1URL: https://abracon.com/Resonators/ABM10.pdf; ComponentLink2Description: DigiKey Link; ComponentLink2URL: http://digikey.com/product-detail/en/abracon-llc/ABM10-30.000MHZ-E20-T/535-9097-1-ND/675614; Device Package: 4-SMD, No Lead; Frequency: 30MHz; Frequency Tolerance: ±20ppm; Height - Seated (Max): 0.028" (0.70mm); LastUpdated: 3/19/2020 10:27:46 PM; Lifecycle Status: Active; Load Capacitance: 10pF; Minimum Order: 1; Mounting Type: Surface Mount; Operating Temperature: -20°C ~ 70°C; Package / Case: 4-SMD, No Lead; Packaging: TapeAndReel; PartId: 286; Part Status: Active; Price: 0.96; Series: ABM10; Size / Dimension: 0.098" L x 0.079" W (2.50mm x 2.00mm); Supplier 1: DigiKey; Supplier Part Number 1: 535-9097-1-ND; Type: MHz Crystal; Value: 30MHz
footprint ABRACON ABM10
pins: 1, 2 GND, 3, 4 GND

## ABM10-32.000MHZ-7-A15-T
designator Y?, comment 32MHz
CRYSTAL 32.0000MHZ 10PF SMD; Part Number: ABM10-32.000MHZ-7-A15-T; Manufacturer: Abracon LLC; ESR (Equivalent Series Resistance): 70 Ohms; Frequency Stability: ±15ppm; Operating Mode: Fundamental; ComponentLink1Description: Datasheet; ComponentLink1URL: https://abracon.com/Resonators/ABM10.pdf; ComponentLink2Description: DigiKey Link; ComponentLink2URL: http://digikey.com/product-detail/en/abracon-llc/ABM10-32.000MHZ-7-A15-T/535-9626-1-ND/1237093; Device Package: 4-SMD, No Lead; Frequency: 32MHz; Frequency Tolerance: ±15ppm; Height - Seated (Max): 0.028" (0.70mm); LastUpdated: 3/19/2020 10:27:46 PM; Lifecycle Status: Active; Load Capacitance: 10pF; Minimum Order: 0; Mounting Type: Surface Mount; Operating Temperature: -10°C ~ 60°C; Package / Case: 4-SMD, No Lead; Packaging: TapeAndReel; PartId: 290; Part Status: Active; Price: 0.60; Series: ABM10; Size / Dimension: 0.098" L x 0.079" W (2.50mm x 2.00mm); Supplier 1: DigiKey; Supplier Part Number 1: 535-9626-1-ND; Type: MHz Crystal; Value: 32MHz
footprint ABRACON ABM10
pins: 1, 2 GND, 3, 4 GND

## ABM10-32.000MHZ-8-7-A15-T
designator Y?, comment 32MHz
CRYSTAL 32.0000MHZ 8PF SMD; Part Number: ABM10-32.000MHZ-8-7-A15-T; Manufacturer: Abracon LLC; ESR (Equivalent Series Resistance): 70 Ohms; Frequency Stability: ±15ppm; Operating Mode: Fundamental; ComponentLink1Description: Datasheet; ComponentLink1URL: https://abracon.com/Resonators/ABM10.pdf; ComponentLink2Description: DigiKey Link; ComponentLink2URL: http://digikey.com/product-detail/en/abracon-llc/ABM10-32.000MHZ-8-7-A15-T/535-9625-1-ND/1237092; Device Package: 4-SMD, No Lead; Frequency: 32MHz; Frequency Tolerance: ±15ppm; Height - Seated (Max): 0.028" (0.70mm); LastUpdated: 3/19/2020 10:27:46 PM; Lifecycle Status: Active; Load Capacitance: 8pF; Minimum Order: 1; Mounting Type: Surface Mount; Operating Temperature: -10°C ~ 60°C; Package / Case: 4-SMD, No Lead; Packaging: TapeAndReel; PartId: 263; Part Status: Active; Price: 0.60; Series: ABM10; Size / Dimension: 0.098" L x 0.079" W (2.50mm x 2.00mm); Supplier 1: DigiKey; Supplier Part Number 1: 535-9625-1-ND; Type: MHz Crystal; Value: 32MHz
footprint ABRACON ABM10
pins: 1, 2 GND, 3, 4 GND

## ABM10-32.000MHZ-D30-T3
designator Y?, comment 32MHz
CRYSTAL 32.0000MHZ 10PF SMD; Part Number: ABM10-32.000MHZ-D30-T3; Manufacturer: Abracon LLC; ESR (Equivalent Series Resistance): 70 Ohms; Frequency Stability: ±30ppm; Frequency Tolerance: ±20ppm; Operating Mode: Fundamental; ComponentLink1Description: Datasheet; ComponentLink1URL: https://abracon.com/Resonators/ABM10.pdf; ComponentLink2Description: DigiKey Link; ComponentLink2URL: http://digikey.com/product-detail/en/abracon-llc/ABM10-32.000MHZ-D30-T3/535-10936-1-ND/2624187; Device Package: 4-SMD, No Lead; Frequency: 32MHz; Height - Seated (Max): 0.028" (0.70mm); LastUpdated: 3/19/2020 10:27:46 PM; Lifecycle Status: Active; Load Capacitance: 10pF; Minimum Order: 1; Mounting Type: Surface Mount; Operating Temperature: -40°C ~ 85°C; Package / Case: 4-SMD, No Lead; Packaging: TapeAndReel; PartId: 273; Part Status: Active; Price: 0.67; Series: ABM10; Size / Dimension: 0.098" L x 0.079" W (2.50mm x 2.00mm); Supplier 1: DigiKey; Supplier Part Number 1: 535-10936-1-ND; Type: MHz Crystal; Value: 32MHz
footprint ABRACON ABM10
pins: 1, 2 GND, 3, 4 GND

## ABM10-40.000MHZ-8-7-A15-T
designator Y?, comment 40MHz
CRYSTAL 40.0000MHZ 8PF SMD; Part Number: ABM10-40.000MHZ-8-7-A15-T; Manufacturer: Abracon LLC; ESR (Equivalent Series Resistance): 70 Ohms; Frequency Stability: ±15ppm; Operating Mode: Fundamental; ComponentLink1Description: Datasheet; ComponentLink1URL: https://abracon.com/Resonators/ABM10.pdf; ComponentLink2Description: DigiKey Link; ComponentLink2URL: http://digikey.com/product-detail/en/abracon-llc/ABM10-40.000MHZ-8-7-A15-T/535-9627-1-ND/1237094; Device Package: 4-SMD, No Lead; Frequency: 40MHz; Frequency Tolerance: ±15ppm; Height - Seated (Max): 0.028" (0.70mm); LastUpdated: 3/19/2020 10:27:46 PM; Lifecycle Status: Active; Load Capacitance: 8pF; Minimum Order: 0; Mounting Type: Surface Mount; Operating Temperature: -10°C ~ 60°C; Package / Case: 4-SMD, No Lead; Packaging: TapeAndReel; PartId: 275; Part Status: Active; Price: 0.60; Series: ABM10; Size / Dimension: 0.098" L x 0.079" W (2.50mm x 2.00mm); Supplier 1: DigiKey; Supplier Part Number 1: 535-9627-1-ND; Type: MHz Crystal; Value: 40MHz
footprint ABRACON ABM10
pins: 1, 2 GND, 3, 4 GND

## ABM10-40.000MHZ-D30-T3
designator Y?, comment 40MHz
CRYSTAL 40.0000MHZ 10PF SMD; Part Number: ABM10-40.000MHZ-D30-T3; Manufacturer: Abracon LLC; ESR (Equivalent Series Resistance): 70 Ohms; Frequency Stability: ±30ppm; Frequency Tolerance: ±20ppm; Operating Mode: Fundamental; ComponentLink1Description: Datasheet; ComponentLink1URL: https://abracon.com/Resonators/ABM10.pdf; ComponentLink2Description: DigiKey Link; ComponentLink2URL: http://digikey.com/product-detail/en/abracon-llc/ABM10-40.000MHZ-D30-T3/535-10937-1-ND/2624188; Device Package: 4-SMD, No Lead; Frequency: 40MHz; Height - Seated (Max): 0.028" (0.70mm); LastUpdated: 3/19/2020 10:27:46 PM; Lifecycle Status: Active; Load Capacitance: 10pF; Minimum Order: 1; Mounting Type: Surface Mount; Operating Temperature: -40°C ~ 85°C; Package / Case: 4-SMD, No Lead; Packaging: TapeAndReel; PartId: 269; Part Status: Active; Price: 0.67; Series: ABM10; Size / Dimension: 0.098" L x 0.079" W (2.50mm x 2.00mm); Supplier 1: DigiKey; Supplier Part Number 1: 535-10937-1-ND; Type: MHz Crystal; Value: 40MHz
footprint ABRACON ABM10
pins: 1, 2 GND, 3, 4 GND

## ABM10-48.000MHZ-D30-T3
designator Y?, comment 48MHz
CRYSTAL 48.0000MHZ 10PF SMD; Part Number: ABM10-48.000MHZ-D30-T3; Manufacturer: Abracon LLC; ESR (Equivalent Series Resistance): 70 Ohms; Frequency Stability: ±30ppm; Frequency Tolerance: ±20ppm; Operating Mode: Fundamental; ComponentLink1Description: Datasheet; ComponentLink1URL: https://abracon.com/Resonators/ABM10.pdf; ComponentLink2Description: DigiKey Link; ComponentLink2URL: http://digikey.com/product-detail/en/abracon-llc/ABM10-48.000MHZ-D30-T3/535-10938-1-ND/2624189; Device Package: 4-SMD, No Lead; Frequency: 48MHz; Height - Seated (Max): 0.028" (0.70mm); LastUpdated: 3/19/2020 10:27:46 PM; Lifecycle Status: Active; Load Capacitance: 10pF; Minimum Order: 1; Mounting Type: Surface Mount; Operating Temperature: -40°C ~ 85°C; Package / Case: 4-SMD, No Lead; Packaging: TapeAndReel; PartId: 268; Part Status: Active; Price: 0.67; Series: ABM10; Size / Dimension: 0.098" L x 0.079" W (2.50mm x 2.00mm); Supplier 1: DigiKey; Supplier Part Number 1: 535-10938-1-ND; Type: MHz Crystal; Value: 48MHz
footprint ABRACON ABM10
pins: 1, 2 GND, 3, 4 GND

## ABM10-166-12.000MHZ-T3
designator Y?, comment 12MHz
CRYSTAL 12.00MHZ 8PF LOW ESR SMD; Part Number: ABM10-166-12.000MHZ-T3; Manufacturer: Abracon LLC; ESR (Equivalent Series Resistance): 125 Ohms; Frequency Stability: ±10ppm; Operating Mode: Fundamental; ComponentLink1Description: Datasheet; ComponentLink1URL: https://abracon.com/Resonators/ABM10-166-12.000MHz.pdf; ComponentLink2Description: DigiKey Link; ComponentLink2URL: http://digikey.com/product-detail/en/abracon-llc/ABM10-166-12.000MHZ-T3/535-13520-1-ND/6140273; Device Package: 4-SMD, No Lead; Frequency: 12MHz; Frequency Tolerance: ±10ppm; Height - Seated (Max): 0.028" (0.70mm); LastUpdated: 3/19/2020 10:27:46 PM; Lifecycle Status: Active; Load Capacitance: 8pF; Minimum Order: 1; Mounting Type: Surface Mount; Operating Temperature: -20°C ~ 70°C; Package / Case: 4-SMD, No Lead; Packaging: TapeAndReel; PartId: 285; Part Status: Active; Price: 0.28; Series: ABM10; Size / Dimension: 0.098" L x 0.079" W (2.50mm x 2.00mm); Supplier 1: DigiKey; Supplier Part Number 1: 535-13520-1-ND; Type: MHz Crystal; Value: 12MHz
footprint ABRACON ABM10
pins: 1, 2 GND, 3, 4 GND

## ABM10-167-12.000MHZ-T3
designator Y?, comment 12MHz
CRYSTAL 12.00MHZ 8PF LOW ESR SMD; Part Number: ABM10-167-12.000MHZ-T3; Manufacturer: Abracon LLC; ESR (Equivalent Series Resistance): 125 Ohms; Frequency Stability: ±30ppm; Frequency Tolerance: ±10ppm; Operating Mode: Fundamental; ComponentLink1Description: Datasheet; ComponentLink1URL: https://abracon.com/Resonators/ABM10-167-12.000MHz.pdf; ComponentLink2Description: DigiKey Link; ComponentLink2URL: http://digikey.com/product-detail/en/abracon-llc/ABM10-167-12.000MHZ-T3/535-13521-1-ND/6140274; Device Package: 4-SMD, No Lead; Frequency: 12MHz; Height - Seated (Max): 0.028" (0.70mm); LastUpdated: 3/19/2020 10:27:46 PM; Lifecycle Status: Active; Load Capacitance: 8pF; Minimum Order: 1; Mounting Type: Surface Mount; Operating Temperature: -40°C ~ 85°C; Package / Case: 4-SMD, No Lead; Packaging: TapeAndReel; PartId: 284; Part Status: Active; Price: 0.28; Series: ABM10; Size / Dimension: 0.098" L x 0.079" W (2.50mm x 2.00mm); Supplier 1: DigiKey; Supplier Part Number 1: 535-13521-1-ND; Type: MHz Crystal; Value: 12MHz
footprint ABRACON ABM10
pins: 1, 2 GND, 3, 4 GND

## ABS06-32.768KHZ-1-T
designator Y?, comment 32.768kHz
CRYSTAL 32.7680KHZ 12.5PF SMD; Part Number: ABS06-32.768KHZ-1-T; Manufacturer: Abracon LLC; ESR (Equivalent Series Resistance): 90 kOhms; Frequency Tolerance: ±10ppm; Operating Mode: Fundamental; ComponentLink1Description: Datasheet; ComponentLink1URL: https://abracon.com/Resonators/ABS06.pdf; ComponentLink2Description: DigiKey Link; ComponentLink2URL: http://digikey.com/product-detail/en/abracon-llc/ABS06-32.768KHZ-1-T/535-10248-1-ND/2218061; Frequency: 32.768kHz; Height - Seated (Max): 0.024" (0.60mm); LastUpdated: 9/2/2020 1:21:47 AM; Lifecycle Status: Active; Load Capacitance: 12.5pF; Minimum Order: 1; Mounting Type: Surface Mount; Operating Temperature: -40°C ~ 85°C; Package / Case: 2-SMD, No Lead; Packaging: CutTape; PartId: 370; Part Status: Active; Price: 0.80; Series: ABS06; Size / Dimension: 0.079" L x 0.047" W (2.00mm x 1.20mm); Supplier 1: DigiKey; Supplier Part Number 1: 535-10248-1-ND; Type: kHz Crystal (Tuning Fork); Value: 32.768kHz
footprint ABRACON ABS06
pins: 1, 2

## ABS06-32.768KHZ-7-T
designator Y?, comment 32.768kHz
CRYSTAL 32.7680KHZ 7PF SMD; Part Number: ABS06-32.768KHZ-7-T; Manufacturer: Abracon LLC; ESR (Equivalent Series Resistance): 90 kOhms; Frequency Tolerance: ±20ppm; Operating Mode: Fundamental; ComponentLink1Description: Datasheet; ComponentLink1URL: https://abracon.com/Resonators/ABS06.pdf; ComponentLink2Description: DigiKey Link; ComponentLink2URL: http://digikey.com/product-detail/en/abracon-llc/ABS06-32.768KHZ-7-T/535-15020-1-ND/9998097; Frequency: 32.768kHz; Height - Seated (Max): 0.024" (0.60mm); LastUpdated: 9/2/2020 1:21:46 AM; Lifecycle Status: Active; Load Capacitance: 7pF; Minimum Order: 1; Mounting Type: Surface Mount; Operating Temperature: -40°C ~ 85°C; Package / Case: 2-SMD, No Lead; Packaging: TapeAndReel; PartId: 372; Part Status: Active; Price: 0.46; Series: ABS06; Size / Dimension: 0.079" L x 0.047" W (2.00mm x 1.20mm); Supplier 1: DigiKey; Supplier Part Number 1: 535-15020-1-ND; Type: kHz Crystal (Tuning Fork); Value: 32.768kHz
footprint ABRACON ABS06
pins: 1, 2

## ABS06-32.768KHZ-9-1-T
designator Y?, comment 32.768kHz
CRYSTAL 32.7680KHZ 9PF SMD; Part Number: ABS06-32.768KHZ-9-1-T; Manufacturer: Abracon LLC; ESR (Equivalent Series Resistance): 90 kOhms; Frequency Tolerance: ±10ppm; Operating Mode: Fundamental; ComponentLink1Description: Datasheet; ComponentLink1URL: https://abracon.com/Resonators/ABS06.pdf; ComponentLink2Description: DigiKey Link; ComponentLink2URL: http://digikey.com/product-detail/en/abracon-llc/ABS06-32.768KHZ-9-1-T/535-10247-1-ND/2218060; Frequency: 32.768kHz; Height - Seated (Max): 0.024" (0.60mm); LastUpdated: 9/2/2020 1:21:47 AM; Lifecycle Status: Active; Load Capacitance: 9pF; Minimum Order: 1; Mounting Type: Surface Mount; Operating Temperature: -40°C ~ 85°C; Package / Case: 2-SMD, No Lead; Packaging: TapeAndReel; PartId: 371; Part Status: Active; Price: 1.05; Series: ABS06; Size / Dimension: 0.079" L x 0.047" W (2.00mm x 1.20mm); Supplier 1: DigiKey; Supplier Part Number 1: 535-10247-1-ND; Type: kHz Crystal (Tuning Fork); Value: 32.768kHz
footprint ABRACON ABS06
pins: 1, 2

## ABS06-32.768KHZ-9-T
designator Y?, comment 32.768kHz
CRYSTAL 32.7680KHZ 9PF SMD; Part Number: ABS06-32.768KHZ-9-T; Manufacturer: Abracon LLC; ESR (Equivalent Series Resistance): 90 kOhms; Frequency Tolerance: ±20ppm; Operating Mode: Fundamental; ComponentLink1Description: Datasheet; ComponentLink1URL: https://abracon.com/Resonators/ABS06.pdf; ComponentLink2Description: DigiKey Link; ComponentLink2URL: http://digikey.com/product-detail/en/abracon-llc/ABS06-32.768KHZ-9-T/535-10246-1-ND/2218059; Frequency: 32.768kHz; Height - Seated (Max): 0.024" (0.60mm); LastUpdated: 9/2/2020 1:21:46 AM; Lifecycle Status: Active; Load Capacitance: 9pF; Minimum Order: 1; Mounting Type: Surface Mount; Operating Temperature: -40°C ~ 85°C; Package / Case: 2-SMD, No Lead; Packaging: TapeAndReel; PartId: 376; Part Status: Active; Price: 0.76; Series: ABS06; Size / Dimension: 0.079" L x 0.047" W (2.00mm x 1.20mm); Supplier 1: DigiKey; Supplier Part Number 1: 535-10246-1-ND; Type: kHz Crystal (Tuning Fork); Value: 32.768kHz
footprint ABRACON ABS06
pins: 1, 2